# Altium schematic symbol library TPS54336DDA.SchLib: 1 symbol
Pins are listed as number, name and electrical type; pins without a type are passive.

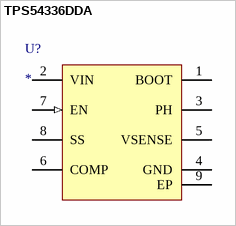
[diagram p0: symbol TPS54336DDA]

## TPS54336DDA
designator U?
pins: 1 BOOT, 2 VIN (power), 3 PH, 4 GND (power), 5 VSENSE, 6 COMP, 7 EN (in), 8 SS, 9 EP (power)